# EAGLE library part BIENAP (library 00bienap)
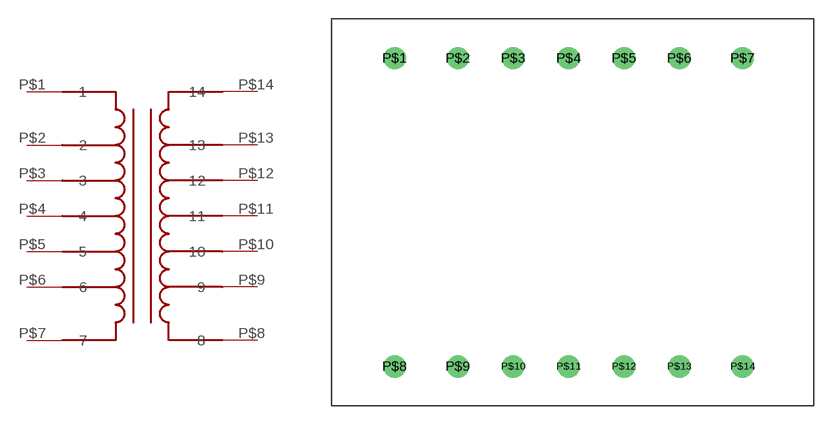
[diagram p0: symbol with the pads of 14; footprint 14]

Designator prefix -

## BIENAPTV  [14]
P$1  1
P$2  2
P$3  3
P$4  4
P$5  5
P$6  6
P$7  7
P$8  8
P$9  9
P$10  10
P$11  11
P$12  12
P$13  13
P$14  14

## Footprint 14 (pad centres in mm)
drill 1.2 round: P$1 6.35,-3.175; P$2 11.43,-3.175; P$3 15.875,-3.175; P$4 20.32,-3.175; P$5 24.765,-3.175; P$6 29.21,-3.175; P$7 34.29,-3.175; P$8 6.35,-27.94; P$9 11.43,-27.94; P$10 15.875,-27.94; P$11 20.32,-27.94; P$12 24.765,-27.94; P$13 29.21,-27.94; P$14 34.29,-27.94